# EAGLE library part CONN_08 (library PCB_library)
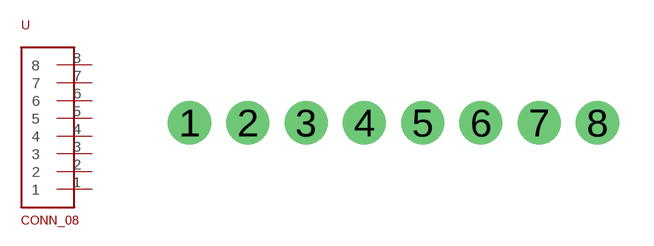
[diagram p1: symbol with the pads of 1X08; footprint 1X08]

Designator prefix -

## CONN_08  [1X08]
1  1
2  2
3  3
4  4
5  5
6  6
7  7
8  8

## Footprint 1X08 (pad centres in mm)
drill 1.016 pad 1.88: 1 -7.62,0; 2 -5.08,0; 3 -2.54,0; 4 0,0; 5 2.54,0; 6 5.08,0; 7 7.62,0; 8 10.16,0